# EAGLE library part 74HC75PW (library NXP_By_element14_Batch_1)
Quad bistable transparant latch
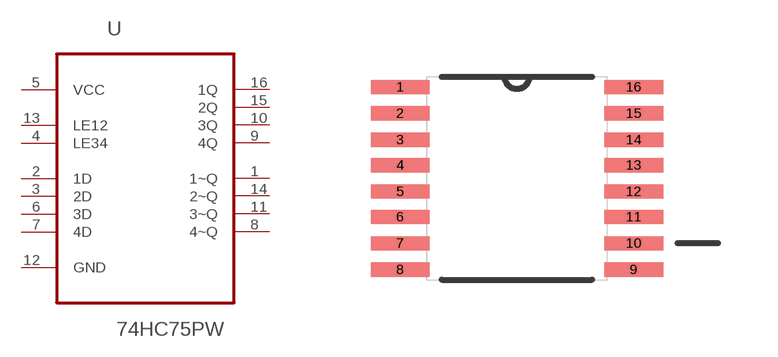
[diagram p157: symbol with the pads of SOP65P640X110-16N; footprint SOP65P640X110-16N]

Designator prefix U

## 74HC75PW (MPN: 74HC75PW; OC_FARNELL: 1631678; OC_NEWARK: 03P2768; P1I: o; PACKAGE: TSSOP-16; SUPPLIER: NXP)  [SOP65P640X110-16N]
1  1~Q  out
2  1D  in
3  2D  in
4  LE34  in
5  VCC  pwr
6  3D  in
7  4D  in
8  4~Q  out
9  4Q  out
10  3Q  out
11  3~Q  out
12  GND  pas
13  LE12  in
14  2~Q  out
15  2Q  out
16  1Q  out

## Footprint SOP65P640X110-16N (pad centres in mm)
smd 1.473 x 0.356: 1 -2.921,2.286; 2 -2.921,1.626; 3 -2.921,0.965; 4 -2.921,0.33; 5 -2.921,-0.33; 6 -2.921,-0.965; 7 -2.921,-1.626; 8 -2.921,-2.286; 9 2.921,-2.286; 10 2.921,-1.626; 11 2.921,-0.965; 12 2.921,-0.33; 13 2.921,0.33; 14 2.921,0.965; 15 2.921,1.626; 16 2.921,2.286